# Altium footprint library ARDUINO_PRO_MINI.PcbLib: 1 footprints
Each footprint in its own frame and in the unit in brackets; x right, y up, seen from the top. Pads: shape width x height; smd on the part's side, far side on the other; paste and mask are expansions set on the pad; w line width, h text height; cw(c..) or ccw(c..) is an arc to the next point about the centre after c.
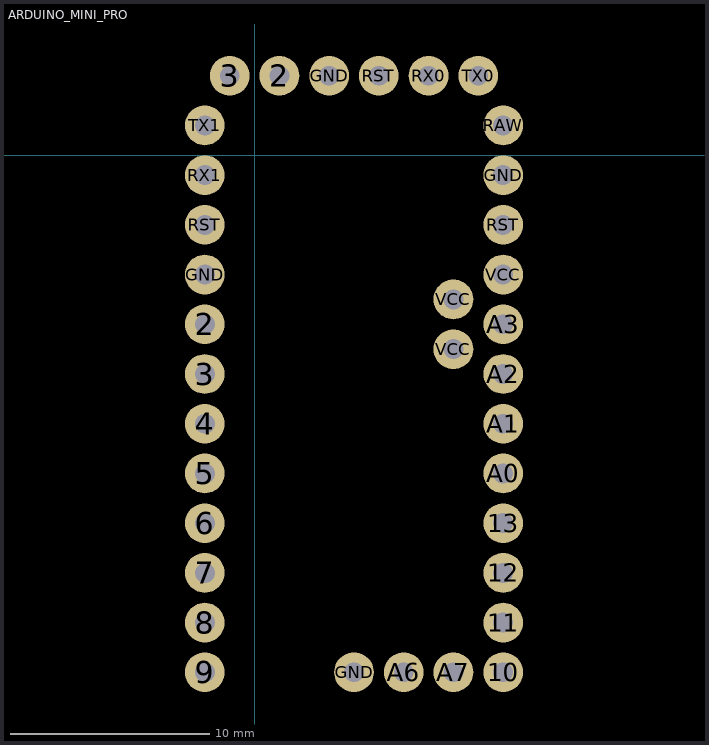
[diagram p0: the footprint, top view; thin cyan lines are the x and y axes]

## ARDUINO_MINI_PRO [mm]
pads (35):
  round 2 hole 1: 2(-2.5,-8.5) 2(1.25,4) 3(-2.5,-11) 3(-1.25,4) 4(-2.5,-13.5) 5(-2.5,-16) 6(-2.5,-18.5) 7(-2.5,-21) 8(-2.5,-23.5) 9(-2.5,-26) 10(12.5,-26) 11(12.5,-23.5) 12(12.5,-21) 13(12.5,-18.5) A0(12.5,-16) A1(12.5,-13.5) A2(12.5,-11) A3(12.5,-8.5) A6(7.5,-26) A7(10,-26) GND(-2.5,-6) GND(3.75,4) GND(5,-26) GND(12.5,-1) RAW(12.5,1.5) RST(-2.5,-3.5) RST(6.25,4) RST(12.5,-3.5) RX0(8.75,4) RX1(-2.5,-1) TX0(11.25,4) TX1(-2.5,1.5) VCC(10,-9.75) VCC(10,-7.25) VCC(12.5,-6)